# Altium footprint library SD_Holder-CUI_MSD-11-A.PcbLib: 1 footprints
Each footprint in its own frame and in the unit in brackets; x right, y up, seen from the top. Pads: shape width x height; smd on the part's side, far side on the other; paste and mask are expansions set on the pad; w line width, h text height; cw(c..) or ccw(c..) is an arc to the next point about the centre after c.
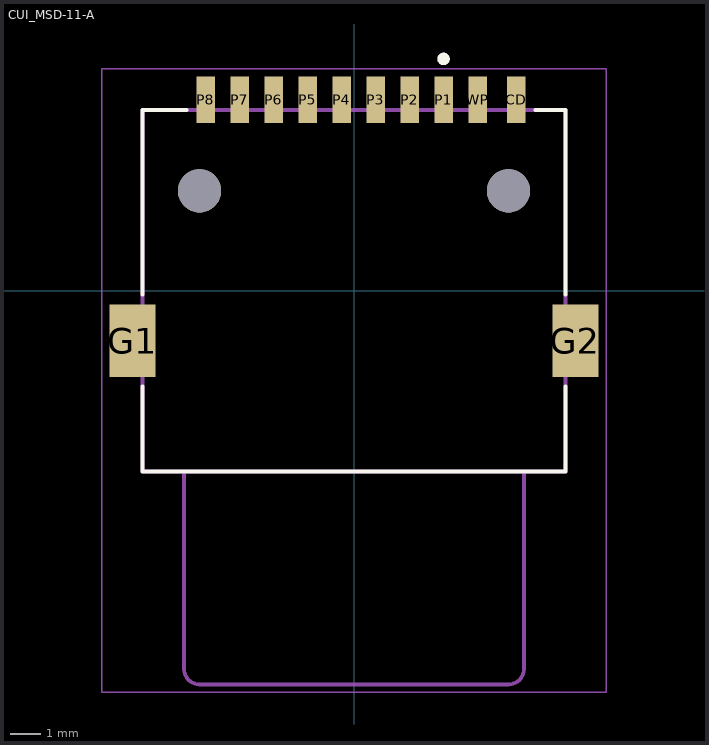
[diagram p0: the footprint, top view; thin cyan lines are the x and y axes]

## CUI_MSD-11-A [mm]
height 2.05
pads (14):
  rect 0.6x1.5 smd: CD(5.25,6.18) P1(2.9,6.18) P2(1.8,6.18) P3(0.7,6.18) P4(-0.4,6.18) P5(-1.5,6.18) P6(-2.6,6.18) P7(-3.7,6.18) P8(-4.8,6.18) WP(4,6.18)
  rect 1.5x2.34 smd: G1(-7.17,-1.62) G2(7.17,-1.62)
  round 1.4 hole 1.4 unplated: ""(-5,3.23) ""(5,3.23)
Top Overlay:
  circle w0.2: c2.9,7.5 r0.1
  lines w0.127: -6.84,-3.11 -6.84,-5.85 6.84,-5.85 6.84,-3.11 ; -6.84,-0.12 -6.84,5.85 -5.42,5.85 ; 5.87,5.85 6.84,5.85 6.84,-0.12
Assembly Top:
  circle w0.2: c2.9,7.5 r0.1
  lines w0.127: -5.5,-5.85 -5.5,-12.25 ccw(c-5,-12.25) -5,-12.75 5,-12.75 ccw(c5,-12.25) 5.5,-12.25 5.5,-5.85 ; -5.5,-5.85 -6.84,-5.85 -6.84,5.85 6.84,5.85 6.84,-5.85 5.5,-5.85 ; -5.5,-5.85 5.5,-5.85
Courtyard Top:
  lines w0.05: -8.17,-13 -8.17,7.18 8.17,7.18 8.17,-13 -8.17,-13
3D body "step_temp.STEP": height 1.82, standoff -0.53, extent -7.39,-5.869 7.39,6.731